# Altium footprint library Dallas Semiconductor Footprints.PcbLib: 181 footprints (part 6 of 12)
Each footprint in its own frame and in the unit in brackets; x right, y up, seen from the top. Pads: shape width x height; smd on the part's side, far side on the other; paste and mask are expansions set on the pad; w line width, h text height; cw(c..) or ccw(c..) is an arc to the next point about the centre after c.
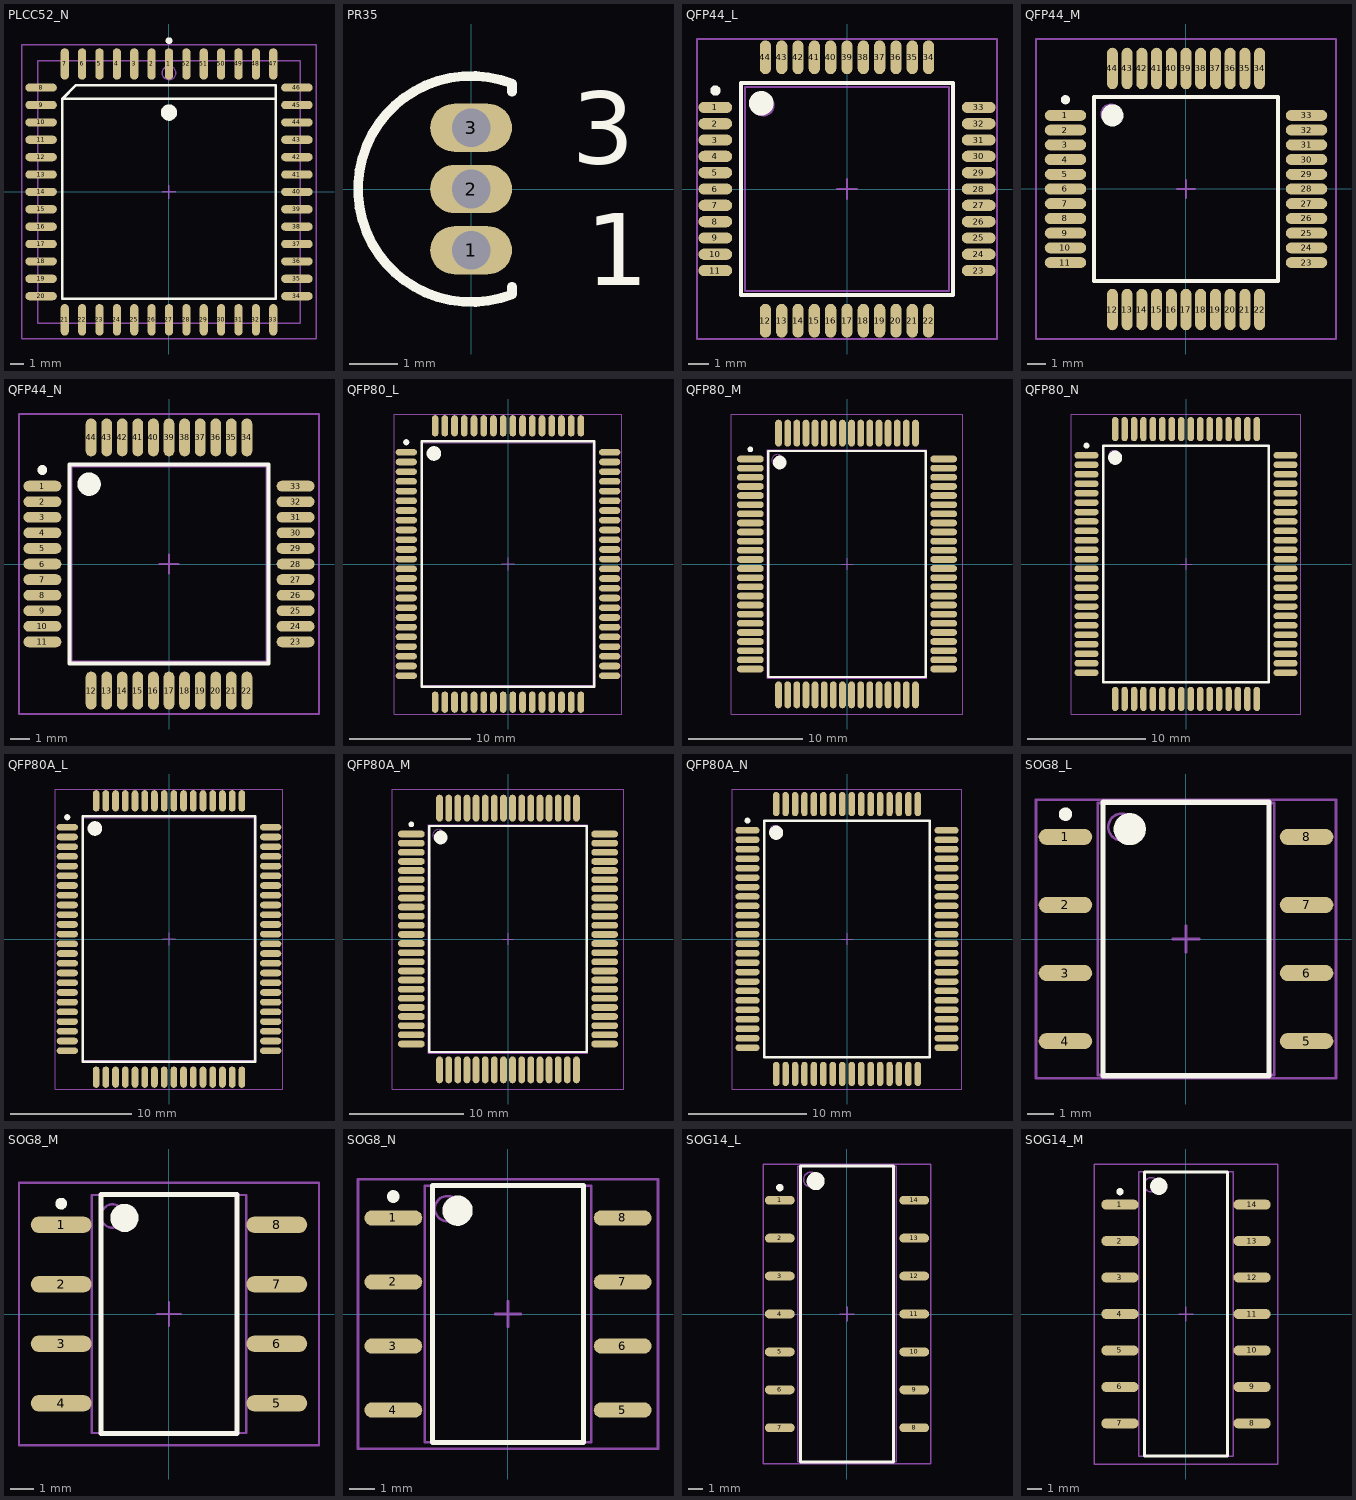
[diagram p5: the footprints below, top view; thin cyan lines are the x and y axes]

## PLCC52_N [mm] "52-Pin Leaded Chip Carrier 1.27 mm Pitch, IPC Medium Density"
height 4.58
pads (52):
  oval 0.6x2.3 smd: 1(0,9.35) 2(-1.27,9.35) 3(-2.54,9.35) 4(-3.81,9.35) 5(-5.08,9.35) 6(-6.35,9.35) 7(-7.62,9.35) 21(-7.62,-9.35) 22(-6.35,-9.35) 23(-5.08,-9.35) 24(-3.81,-9.35) 25(-2.54,-9.35) 26(-1.27,-9.35) 27(0,-9.35) 28(1.27,-9.35) 29(2.54,-9.35) 30(3.81,-9.35) 31(5.08,-9.35) 32(6.35,-9.35) 33(7.62,-9.35) 47(7.62,9.35) 48(6.35,9.35) 49(5.08,9.35) 50(3.81,9.35) 51(2.54,9.35) 52(1.27,9.35)
  oval 2.3x0.6 smd: 8(-9.35,7.62) 9(-9.35,6.35) 10(-9.35,5.08) 11(-9.35,3.81) 12(-9.35,2.54) 13(-9.35,1.27) 14(-9.35,0) 15(-9.35,-1.27) 16(-9.35,-2.54) 17(-9.35,-3.81) 18(-9.35,-5.08) 19(-9.35,-6.35) 20(-9.35,-7.62) 34(9.35,-7.62) 35(9.35,-6.35) 36(9.35,-5.08) 37(9.35,-3.81) 38(9.35,-2.54) 39(9.35,-1.27) 40(9.35,0) 41(9.35,1.27) 42(9.35,2.54) 43(9.35,3.81) 44(9.35,5.08) 45(9.35,6.35) 46(9.35,7.62)
Top Overlay:
  circle w0.25: c0,11.05 r0.125
  circle w0.6: c0,5.8 r0.3
  lines w0.2: 7.8,6.8 -7.8,6.8 ; -7.8,6.8 -6.8,7.8 7.8,7.8 7.8,-7.8 -7.8,-7.8 -7.8,6.8
Mechanical 13:
  circle w0.1: c0,8.7 r0.5
  lines w0.1: -9.6,-9.6 -9.6,9.6 9.6,9.6 9.6,-9.6 -9.6,-9.6
Mechanical 15:
  lines w0.1: -0.5,0 0.5,0 ; 0,-0.5 0,0.5 ; -10.75,-10.75 -10.75,10.75 10.75,10.75 10.75,-10.75 -10.75,-10.75
3D body: height 4.58, standoff 0, extent -9.6,-9.6 9.6,9.6

## PR35 [mm] "TO, Flat Index; 3 In-Line, Axial Leads; Body Dia. 4.6mm; Leads 0.56 x 0.51 mm (max)"
height 8.97
pads (3):
  oval 1.7x1 hole 0.8: 1(0,-1.27) 2(0,0) 3(0,1.27)
Top Overlay:
  lines w0.2: 0.85,-2.18 0.85,-2.03 ; 0.85,2.02 0.85,2.18 ; 0.853,-2.187 cw(c0,0) 0.853,2.187
  text "3" at 2.09,0.52 h1.5
  text "1" at 2.38,-2 h1.5

## QFP44_L [mm] "44-Pin Quad Flat Pack 0.8 mm Pitch, IPC High Density"
height 2.45
pads (44):
  oval 1.65x0.55 smd: 1(-6.45,4) 2(-6.45,3.2) 3(-6.45,2.4) 4(-6.45,1.6) 5(-6.45,0.8) 6(-6.45,0) 7(-6.45,-0.8) 8(-6.45,-1.6) 9(-6.45,-2.4) 10(-6.45,-3.2) 11(-6.45,-4) 23(6.45,-4) 24(6.45,-3.2) 25(6.45,-2.4) 26(6.45,-1.6) 27(6.45,-0.8) 28(6.45,0) 29(6.45,0.8) 30(6.45,1.6) 31(6.45,2.4) 32(6.45,3.2) 33(6.45,4)
  oval 0.55x1.65 smd: 12(-4,-6.45) 13(-3.2,-6.45) 14(-2.4,-6.45) 15(-1.6,-6.45) 16(-0.8,-6.45) 17(0,-6.45) 18(0.8,-6.45) 19(1.6,-6.45) 20(2.4,-6.45) 21(3.2,-6.45) 22(4,-6.45) 34(4,6.45) 35(3.2,6.45) 36(2.4,6.45) 37(1.6,6.45) 38(0.8,6.45) 39(0,6.45) 40(-0.8,6.45) 41(-1.6,6.45) 42(-2.4,6.45) 43(-3.2,6.45) 44(-4,6.45)
Top Overlay:
  circle w0.6: c-4.2,4.2 r0.3
  circle w0.25: c-6.45,4.825 r0.125
  lines w0.2: -5.2,-5.2 5.2,-5.2 5.2,5.2 -5.2,5.2 -5.2,-5.2
Mechanical 13:
  circle w0.1: c-4.1,4.1 r0.5
  lines w0.1: -5,-5 5,-5 5,5 -5,5 -5,-5
Mechanical 15:
  lines w0.1: -0.5,0 0.5,0 ; 0,-0.5 0,0.5 ; -7.35,-7.35 7.35,-7.35 7.35,7.35 -7.35,7.35 -7.35,-7.35
3D body: height 2.45, standoff 0, extent -5,-5 5,5

## QFP44_M [mm] "44-Pin Quad Flat Pack 0.8 mm Pitch, IPC Low Density"
height 2.45
pads (44):
  oval 2.25x0.6 smd: 1(-6.55,4) 2(-6.55,3.2) 3(-6.55,2.4) 4(-6.55,1.6) 5(-6.55,0.8) 6(-6.55,0) 7(-6.55,-0.8) 8(-6.55,-1.6) 9(-6.55,-2.4) 10(-6.55,-3.2) 11(-6.55,-4) 23(6.55,-4) 24(6.55,-3.2) 25(6.55,-2.4) 26(6.55,-1.6) 27(6.55,-0.8) 28(6.55,0) 29(6.55,0.8) 30(6.55,1.6) 31(6.55,2.4) 32(6.55,3.2) 33(6.55,4)
  oval 0.6x2.25 smd: 12(-4,-6.55) 13(-3.2,-6.55) 14(-2.4,-6.55) 15(-1.6,-6.55) 16(-0.8,-6.55) 17(0,-6.55) 18(0.8,-6.55) 19(1.6,-6.55) 20(2.4,-6.55) 21(3.2,-6.55) 22(4,-6.55) 34(4,6.55) 35(3.2,6.55) 36(2.4,6.55) 37(1.6,6.55) 38(0.8,6.55) 39(0,6.55) 40(-0.8,6.55) 41(-1.6,6.55) 42(-2.4,6.55) 43(-3.2,6.55) 44(-4,6.55)
Top Overlay:
  circle w0.6: c-4,4 r0.3
  circle w0.25: c-6.55,4.85 r0.125
  lines w0.2: -5,-5 5,-5 5,5 -5,5 -5,-5
Mechanical 13:
  circle w0.1: c-4.1,4.1 r0.5
  lines w0.1: -5,-5 5,-5 5,5 -5,5 -5,-5
Mechanical 15:
  lines w0.1: -0.5,0 0.5,0 ; 0,-0.5 0,0.5 ; -8.15,-8.15 8.15,-8.15 8.15,8.15 -8.15,8.15 -8.15,-8.15
3D body: height 2.45, standoff 0, extent -5,-5 5,5

## QFP44_N [mm] "44-Pin Quad Flat Pack 0.8 mm Pitch, IPC Medium Density"
height 2.45
pads (44):
  oval 1.95x0.55 smd: 1(-6.5,4) 2(-6.5,3.2) 3(-6.5,2.4) 4(-6.5,1.6) 5(-6.5,0.8) 6(-6.5,0) 7(-6.5,-0.8) 8(-6.5,-1.6) 9(-6.5,-2.4) 10(-6.5,-3.2) 11(-6.5,-4) 23(6.5,-4) 24(6.5,-3.2) 25(6.5,-2.4) 26(6.5,-1.6) 27(6.5,-0.8) 28(6.5,0) 29(6.5,0.8) 30(6.5,1.6) 31(6.5,2.4) 32(6.5,3.2) 33(6.5,4)
  oval 0.55x1.95 smd: 12(-4,-6.5) 13(-3.2,-6.5) 14(-2.4,-6.5) 15(-1.6,-6.5) 16(-0.8,-6.5) 17(0,-6.5) 18(0.8,-6.5) 19(1.6,-6.5) 20(2.4,-6.5) 21(3.2,-6.5) 22(4,-6.5) 34(4,6.5) 35(3.2,6.5) 36(2.4,6.5) 37(1.6,6.5) 38(0.8,6.5) 39(0,6.5) 40(-0.8,6.5) 41(-1.6,6.5) 42(-2.4,6.5) 43(-3.2,6.5) 44(-4,6.5)
Top Overlay:
  circle w0.6: c-4.1,4.1 r0.3
  circle w0.25: c-6.5,4.825 r0.125
  lines w0.2: -5.1,-5.1 5.1,-5.1 5.1,5.1 -5.1,5.1 -5.1,-5.1
Mechanical 13:
  circle w0.1: c-4.1,4.1 r0.5
  lines w0.1: -5,-5 5,-5 5,5 -5,5 -5,-5
Mechanical 15:
  lines w0.1: -0.5,0 0.5,0 ; 0,-0.5 0,0.5 ; -7.7,-7.7 7.7,-7.7 7.7,7.7 -7.7,7.7 -7.7,-7.7
3D body: height 2.45, standoff 0, extent -5,-5 5,5

## QFP80_L [mm] "80-Pin Quad Flat Pack Rectangular 0.8 mm Pitch, IPC High Density"
height 3.25
pads (80):
  oval 1.75x0.55 smd: 1(-8.375,9.2) 2(-8.375,8.4) 3(-8.375,7.6) 4(-8.375,6.8) 5(-8.375,6) 6(-8.375,5.2) 7(-8.375,4.4) 8(-8.375,3.6) 9(-8.375,2.8) 10(-8.375,2) 11(-8.375,1.2) 12(-8.375,0.4) 13(-8.375,-0.4) 14(-8.375,-1.2) 15(-8.375,-2) 16(-8.375,-2.8) 17(-8.375,-3.6) 18(-8.375,-4.4) 19(-8.375,-5.2) 20(-8.375,-6) 21(-8.375,-6.8) 22(-8.375,-7.6) 23(-8.375,-8.4) 24(-8.375,-9.2) 41(8.375,-9.2) 42(8.375,-8.4) 43(8.375,-7.6) 44(8.375,-6.8) 45(8.375,-6) 46(8.375,-5.2) 47(8.375,-4.4) 48(8.375,-3.6) 49(8.375,-2.8) 50(8.375,-2) 51(8.375,-1.2) 52(8.375,-0.4) 53(8.375,0.4) 54(8.375,1.2) 55(8.375,2) 56(8.375,2.8) 57(8.375,3.6) 58(8.375,4.4) 59(8.375,5.2) 60(8.375,6) 61(8.375,6.8) 62(8.375,7.6) 63(8.375,8.4) 64(8.375,9.2)
  oval 0.55x1.75 smd: 25(-6,-11.375) 26(-5.2,-11.375) 27(-4.4,-11.375) 28(-3.6,-11.375) 29(-2.8,-11.375) 30(-2,-11.375) 31(-1.2,-11.375) 32(-0.4,-11.375) 33(0.4,-11.375) 34(1.2,-11.375) 35(2,-11.375) 36(2.8,-11.375) 37(3.6,-11.375) 38(4.4,-11.375) 39(5.2,-11.375) 40(6,-11.375) 65(6,11.375) 66(5.2,11.375) 67(4.4,11.375) 68(3.6,11.375) 69(2.8,11.375) 70(2,11.375) 71(1.2,11.375) 72(0.4,11.375) 73(-0.4,11.375) 74(-1.2,11.375) 75(-2,11.375) 76(-2.8,11.375) 77(-3.6,11.375) 78(-4.4,11.375) 79(-5.2,11.375) 80(-6,11.375)
Top Overlay:
  circle w0.6: c-6.1,9.1 r0.3
  circle w0.25: c-8.375,10.025 r0.125
  lines w0.2: -7.1,-10.1 7.1,-10.1 7.1,10.1 -7.1,10.1 -7.1,-10.1
Mechanical 13:
  circle w0.1: c-6.1,9.1 r0.5
  lines w0.1: -7,-10 7,-10 7,10 -7,10 -7,-10
Mechanical 15:
  lines w0.1: -0.5,0 0.5,0 ; 0,-0.5 0,0.5 ; -9.35,-12.35 9.35,-12.35 9.35,12.35 -9.35,12.35 -9.35,-12.35
3D body: height 3.25, standoff 0, extent -7,-10 7,10

## QFP80_M [mm] "80-Pin Quad Flat Pack Rectangular 0.8 mm Pitch, IPC Low Density"
height 3.25
pads (80):
  oval 2.35x0.6 smd: 1(-8.475,9.2) 2(-8.475,8.4) 3(-8.475,7.6) 4(-8.475,6.8) 5(-8.475,6) 6(-8.475,5.2) 7(-8.475,4.4) 8(-8.475,3.6) 9(-8.475,2.8) 10(-8.475,2) 11(-8.475,1.2) 12(-8.475,0.4) 13(-8.475,-0.4) 14(-8.475,-1.2) 15(-8.475,-2) 16(-8.475,-2.8) 17(-8.475,-3.6) 18(-8.475,-4.4) 19(-8.475,-5.2) 20(-8.475,-6) 21(-8.475,-6.8) 22(-8.475,-7.6) 23(-8.475,-8.4) 24(-8.475,-9.2) 41(8.475,-9.2) 42(8.475,-8.4) 43(8.475,-7.6) 44(8.475,-6.8) 45(8.475,-6) 46(8.475,-5.2) 47(8.475,-4.4) 48(8.475,-3.6) 49(8.475,-2.8) 50(8.475,-2) 51(8.475,-1.2) 52(8.475,-0.4) 53(8.475,0.4) 54(8.475,1.2) 55(8.475,2) 56(8.475,2.8) 57(8.475,3.6) 58(8.475,4.4) 59(8.475,5.2) 60(8.475,6) 61(8.475,6.8) 62(8.475,7.6) 63(8.475,8.4) 64(8.475,9.2)
  oval 0.6x2.35 smd: 25(-6,-11.475) 26(-5.2,-11.475) 27(-4.4,-11.475) 28(-3.6,-11.475) 29(-2.8,-11.475) 30(-2,-11.475) 31(-1.2,-11.475) 32(-0.4,-11.475) 33(0.4,-11.475) 34(1.2,-11.475) 35(2,-11.475) 36(2.8,-11.475) 37(3.6,-11.475) 38(4.4,-11.475) 39(5.2,-11.475) 40(6,-11.475) 65(6,11.475) 66(5.2,11.475) 67(4.4,11.475) 68(3.6,11.475) 69(2.8,11.475) 70(2,11.475) 71(1.2,11.475) 72(0.4,11.475) 73(-0.4,11.475) 74(-1.2,11.475) 75(-2,11.475) 76(-2.8,11.475) 77(-3.6,11.475) 78(-4.4,11.475) 79(-5.2,11.475) 80(-6,11.475)
Top Overlay:
  circle w0.25: c-8.475,10.05 r0.125
  circle w0.6: c-5.9,8.9 r0.3
  lines w0.2: -6.9,-9.9 -6.9,9.9 6.9,9.9 6.9,-9.9 -6.9,-9.9
Mechanical 13:
  circle w0.1: c-6.1,9.1 r0.5
  lines w0.1: -7,-10 -7,10 7,10 7,-10 -7,-10
Mechanical 15:
  lines w0.1: -0.5,0 0.5,0 ; 0,-0.5 0,0.5 ; -10.15,-13.15 -10.15,13.15 10.15,13.15 10.15,-13.15 -10.15,-13.15
3D body: height 3.25, standoff 0, extent -7,-10 7,10

## QFP80_N [mm] "80-Pin Quad Flat Pack Rectangular 0.8 mm Pitch, IPC Medium Density"
height 3.25
pads (80):
  oval 2.05x0.55 smd: 1(-8.425,9.2) 2(-8.425,8.4) 3(-8.425,7.6) 4(-8.425,6.8) 5(-8.425,6) 6(-8.425,5.2) 7(-8.425,4.4) 8(-8.425,3.6) 9(-8.425,2.8) 10(-8.425,2) 11(-8.425,1.2) 12(-8.425,0.4) 13(-8.425,-0.4) 14(-8.425,-1.2) 15(-8.425,-2) 16(-8.425,-2.8) 17(-8.425,-3.6) 18(-8.425,-4.4) 19(-8.425,-5.2) 20(-8.425,-6) 21(-8.425,-6.8) 22(-8.425,-7.6) 23(-8.425,-8.4) 24(-8.425,-9.2) 41(8.425,-9.2) 42(8.425,-8.4) 43(8.425,-7.6) 44(8.425,-6.8) 45(8.425,-6) 46(8.425,-5.2) 47(8.425,-4.4) 48(8.425,-3.6) 49(8.425,-2.8) 50(8.425,-2) 51(8.425,-1.2) 52(8.425,-0.4) 53(8.425,0.4) 54(8.425,1.2) 55(8.425,2) 56(8.425,2.8) 57(8.425,3.6) 58(8.425,4.4) 59(8.425,5.2) 60(8.425,6) 61(8.425,6.8) 62(8.425,7.6) 63(8.425,8.4) 64(8.425,9.2)
  oval 0.55x2.05 smd: 25(-6,-11.425) 26(-5.2,-11.425) 27(-4.4,-11.425) 28(-3.6,-11.425) 29(-2.8,-11.425) 30(-2,-11.425) 31(-1.2,-11.425) 32(-0.4,-11.425) 33(0.4,-11.425) 34(1.2,-11.425) 35(2,-11.425) 36(2.8,-11.425) 37(3.6,-11.425) 38(4.4,-11.425) 39(5.2,-11.425) 40(6,-11.425) 65(6,11.425) 66(5.2,11.425) 67(4.4,11.425) 68(3.6,11.425) 69(2.8,11.425) 70(2,11.425) 71(1.2,11.425) 72(0.4,11.425) 73(-0.4,11.425) 74(-1.2,11.425) 75(-2,11.425) 76(-2.8,11.425) 77(-3.6,11.425) 78(-4.4,11.425) 79(-5.2,11.425) 80(-6,11.425)
Top Overlay:
  circle w0.6: c-6,9 r0.3
  circle w0.25: c-8.425,10.025 r0.125
  lines w0.2: -7,-10 7,-10 7,10 -7,10 -7,-10
Mechanical 13:
  circle w0.1: c-6.1,9.1 r0.5
  lines w0.1: -7,-10 7,-10 7,10 -7,10 -7,-10
Mechanical 15:
  lines w0.1: -0.5,0 0.5,0 ; 0,-0.5 0,0.5 ; -9.7,-12.7 9.7,-12.7 9.7,12.7 -9.7,12.7 -9.7,-12.7
3D body: height 3.25, standoff 0, extent -7,-10 7,10

## QFP80A_L [mm] "80-Pin Quad Flat Pack Rectangular 0.8 mm Pitch, IPC High Density"
height 3.15
pads (80):
  oval 1.75x0.55 smd: 1(-8.375,9.2) 2(-8.375,8.4) 3(-8.375,7.6) 4(-8.375,6.8) 5(-8.375,6) 6(-8.375,5.2) 7(-8.375,4.4) 8(-8.375,3.6) 9(-8.375,2.8) 10(-8.375,2) 11(-8.375,1.2) 12(-8.375,0.4) 13(-8.375,-0.4) 14(-8.375,-1.2) 15(-8.375,-2) 16(-8.375,-2.8) 17(-8.375,-3.6) 18(-8.375,-4.4) 19(-8.375,-5.2) 20(-8.375,-6) 21(-8.375,-6.8) 22(-8.375,-7.6) 23(-8.375,-8.4) 24(-8.375,-9.2) 41(8.375,-9.2) 42(8.375,-8.4) 43(8.375,-7.6) 44(8.375,-6.8) 45(8.375,-6) 46(8.375,-5.2) 47(8.375,-4.4) 48(8.375,-3.6) 49(8.375,-2.8) 50(8.375,-2) 51(8.375,-1.2) 52(8.375,-0.4) 53(8.375,0.4) 54(8.375,1.2) 55(8.375,2) 56(8.375,2.8) 57(8.375,3.6) 58(8.375,4.4) 59(8.375,5.2) 60(8.375,6) 61(8.375,6.8) 62(8.375,7.6) 63(8.375,8.4) 64(8.375,9.2)
  oval 0.55x1.75 smd: 25(-6,-11.375) 26(-5.2,-11.375) 27(-4.4,-11.375) 28(-3.6,-11.375) 29(-2.8,-11.375) 30(-2,-11.375) 31(-1.2,-11.375) 32(-0.4,-11.375) 33(0.4,-11.375) 34(1.2,-11.375) 35(2,-11.375) 36(2.8,-11.375) 37(3.6,-11.375) 38(4.4,-11.375) 39(5.2,-11.375) 40(6,-11.375) 65(6,11.375) 66(5.2,11.375) 67(4.4,11.375) 68(3.6,11.375) 69(2.8,11.375) 70(2,11.375) 71(1.2,11.375) 72(0.4,11.375) 73(-0.4,11.375) 74(-1.2,11.375) 75(-2,11.375) 76(-2.8,11.375) 77(-3.6,11.375) 78(-4.4,11.375) 79(-5.2,11.375) 80(-6,11.375)
Top Overlay:
  circle w0.6: c-6.1,9.1 r0.3
  circle w0.25: c-8.375,10.025 r0.125
  lines w0.2: -7.1,-10.1 7.1,-10.1 7.1,10.1 -7.1,10.1 -7.1,-10.1
Mechanical 13:
  circle w0.1: c-6.1,9.1 r0.5
  lines w0.1: -7,-10 7,-10 7,10 -7,10 -7,-10
Mechanical 15:
  lines w0.1: -0.5,0 0.5,0 ; 0,-0.5 0,0.5 ; -9.35,-12.35 9.35,-12.35 9.35,12.35 -9.35,12.35 -9.35,-12.35
3D body: height 3.15, standoff 0, extent -7,-10 7,10

## QFP80A_M [mm] "80-Pin Quad Flat Pack Rectangular 0.8 mm Pitch, IPC Low Density"
height 3.15
pads (80):
  oval 2.35x0.6 smd: 1(-8.475,9.2) 2(-8.475,8.4) 3(-8.475,7.6) 4(-8.475,6.8) 5(-8.475,6) 6(-8.475,5.2) 7(-8.475,4.4) 8(-8.475,3.6) 9(-8.475,2.8) 10(-8.475,2) 11(-8.475,1.2) 12(-8.475,0.4) 13(-8.475,-0.4) 14(-8.475,-1.2) 15(-8.475,-2) 16(-8.475,-2.8) 17(-8.475,-3.6) 18(-8.475,-4.4) 19(-8.475,-5.2) 20(-8.475,-6) 21(-8.475,-6.8) 22(-8.475,-7.6) 23(-8.475,-8.4) 24(-8.475,-9.2) 41(8.475,-9.2) 42(8.475,-8.4) 43(8.475,-7.6) 44(8.475,-6.8) 45(8.475,-6) 46(8.475,-5.2) 47(8.475,-4.4) 48(8.475,-3.6) 49(8.475,-2.8) 50(8.475,-2) 51(8.475,-1.2) 52(8.475,-0.4) 53(8.475,0.4) 54(8.475,1.2) 55(8.475,2) 56(8.475,2.8) 57(8.475,3.6) 58(8.475,4.4) 59(8.475,5.2) 60(8.475,6) 61(8.475,6.8) 62(8.475,7.6) 63(8.475,8.4) 64(8.475,9.2)
  oval 0.6x2.35 smd: 25(-6,-11.475) 26(-5.2,-11.475) 27(-4.4,-11.475) 28(-3.6,-11.475) 29(-2.8,-11.475) 30(-2,-11.475) 31(-1.2,-11.475) 32(-0.4,-11.475) 33(0.4,-11.475) 34(1.2,-11.475) 35(2,-11.475) 36(2.8,-11.475) 37(3.6,-11.475) 38(4.4,-11.475) 39(5.2,-11.475) 40(6,-11.475) 65(6,11.475) 66(5.2,11.475) 67(4.4,11.475) 68(3.6,11.475) 69(2.8,11.475) 70(2,11.475) 71(1.2,11.475) 72(0.4,11.475) 73(-0.4,11.475) 74(-1.2,11.475) 75(-2,11.475) 76(-2.8,11.475) 77(-3.6,11.475) 78(-4.4,11.475) 79(-5.2,11.475) 80(-6,11.475)
Top Overlay:
  circle w0.25: c-8.475,10.05 r0.125
  circle w0.6: c-5.9,8.9 r0.3
  lines w0.2: -6.9,-9.9 -6.9,9.9 6.9,9.9 6.9,-9.9 -6.9,-9.9
Mechanical 13:
  circle w0.1: c-6.1,9.1 r0.5
  lines w0.1: -7,-10 -7,10 7,10 7,-10 -7,-10
Mechanical 15:
  lines w0.1: -0.5,0 0.5,0 ; 0,-0.5 0,0.5 ; -10.15,-13.15 -10.15,13.15 10.15,13.15 10.15,-13.15 -10.15,-13.15
3D body: height 3.15, standoff 0, extent -7,-10 7,10

## QFP80A_N [mm] "80-Pin Quad Flat Pack Rectangular 0.8 mm Pitch, IPC Medium Density"
height 3.15
pads (80):
  oval 2.05x0.55 smd: 1(-8.425,9.2) 2(-8.425,8.4) 3(-8.425,7.6) 4(-8.425,6.8) 5(-8.425,6) 6(-8.425,5.2) 7(-8.425,4.4) 8(-8.425,3.6) 9(-8.425,2.8) 10(-8.425,2) 11(-8.425,1.2) 12(-8.425,0.4) 13(-8.425,-0.4) 14(-8.425,-1.2) 15(-8.425,-2) 16(-8.425,-2.8) 17(-8.425,-3.6) 18(-8.425,-4.4) 19(-8.425,-5.2) 20(-8.425,-6) 21(-8.425,-6.8) 22(-8.425,-7.6) 23(-8.425,-8.4) 24(-8.425,-9.2) 41(8.425,-9.2) 42(8.425,-8.4) 43(8.425,-7.6) 44(8.425,-6.8) 45(8.425,-6) 46(8.425,-5.2) 47(8.425,-4.4) 48(8.425,-3.6) 49(8.425,-2.8) 50(8.425,-2) 51(8.425,-1.2) 52(8.425,-0.4) 53(8.425,0.4) 54(8.425,1.2) 55(8.425,2) 56(8.425,2.8) 57(8.425,3.6) 58(8.425,4.4) 59(8.425,5.2) 60(8.425,6) 61(8.425,6.8) 62(8.425,7.6) 63(8.425,8.4) 64(8.425,9.2)
  oval 0.55x2.05 smd: 25(-6,-11.425) 26(-5.2,-11.425) 27(-4.4,-11.425) 28(-3.6,-11.425) 29(-2.8,-11.425) 30(-2,-11.425) 31(-1.2,-11.425) 32(-0.4,-11.425) 33(0.4,-11.425) 34(1.2,-11.425) 35(2,-11.425) 36(2.8,-11.425) 37(3.6,-11.425) 38(4.4,-11.425) 39(5.2,-11.425) 40(6,-11.425) 65(6,11.425) 66(5.2,11.425) 67(4.4,11.425) 68(3.6,11.425) 69(2.8,11.425) 70(2,11.425) 71(1.2,11.425) 72(0.4,11.425) 73(-0.4,11.425) 74(-1.2,11.425) 75(-2,11.425) 76(-2.8,11.425) 77(-3.6,11.425) 78(-4.4,11.425) 79(-5.2,11.425) 80(-6,11.425)
Top Overlay:
  circle w0.6: c-6,9 r0.3
  circle w0.25: c-8.425,10.025 r0.125
  lines w0.2: -7,-10 7,-10 7,10 -7,10 -7,-10
Mechanical 13:
  circle w0.1: c-6.1,9.1 r0.5
  lines w0.1: -7,-10 7,-10 7,10 -7,10 -7,-10
Mechanical 15:
  lines w0.1: -0.5,0 0.5,0 ; 0,-0.5 0,0.5 ; -9.7,-12.7 9.7,-12.7 9.7,12.7 -9.7,12.7 -9.7,-12.7
3D body: height 3.15, standoff 0, extent -7,-10 7,10

## SOG8_L [mm] "8-Pin Small Outline Package 2.54 mm Pitch, IPC High Density"
height 4.57
pads (8):
  oval 2x0.6 smd: 1(-4.5,3.81) 2(-4.5,1.27) 3(-4.5,-1.27) 4(-4.5,-3.81) 5(4.5,-3.81) 6(4.5,-1.27) 7(4.5,1.27) 8(4.5,3.81)
Top Overlay:
  circle w0.25: c-4.5,4.66 r0.125
  circle w0.6: c-2.1,4.1 r0.3
  lines w0.2: -3.1,-5.1 -3.1,5.1 3.1,5.1 3.1,-5.1 -3.1,-5.1
Mechanical 13:
  circle w0.1: c-2.4,4.18 r0.5
  lines w0.1: -3.3,-5.08 -3.3,5.08 3.3,5.08 3.3,-5.08 -3.3,-5.08
Mechanical 15:
  lines w0.1: -0.5,0 0.5,0 ; 0,-0.5 0,0.5 ; -5.6,-5.2 -5.6,5.2 5.6,5.2 5.6,-5.2 -5.6,-5.2
3D body: height 4.57, standoff 0, extent -3.3,-5.08 3.3,5.08

## SOG8_M [mm] "8-Pin Small Outline Package 2.54 mm Pitch, IPC Low Density"
height 4.57
pads (8):
  oval 2.6x0.7 smd: 1(-4.6,3.81) 2(-4.6,1.27) 3(-4.6,-1.27) 4(-4.6,-3.81) 5(4.6,-3.81) 6(4.6,-1.27) 7(4.6,1.27) 8(4.6,3.81)
Top Overlay:
  circle w0.6: c-1.9,4.1 r0.3
  circle w0.25: c-4.6,4.71 r0.125
  lines w0.2: -2.9,-5.1 2.9,-5.1 2.9,5.1 -2.9,5.1 -2.9,-5.1
Mechanical 13:
  circle w0.1: c-2.4,4.18 r0.5
  lines w0.1: -3.3,-5.08 3.3,-5.08 3.3,5.08 -3.3,5.08 -3.3,-5.08
Mechanical 15:
  lines w0.1: -0.5,0 0.5,0 ; 0,-0.5 0,0.5 ; -6.4,-5.6 6.4,-5.6 6.4,5.6 -6.4,5.6 -6.4,-5.6
3D body: height 4.57, standoff 0, extent -3.3,-5.08 3.3,5.08

## SOG8_N [mm] "8-Pin Small Outline Package 2.54 mm Pitch, IPC Medium Density"
height 4.57
pads (8):
  oval 2.3x0.6 smd: 1(-4.55,3.81) 2(-4.55,1.27) 3(-4.55,-1.27) 4(-4.55,-3.81) 5(4.55,-3.81) 6(4.55,-1.27) 7(4.55,1.27) 8(4.55,3.81)
Top Overlay:
  circle w0.6: c-2,4.1 r0.3
  circle w0.25: c-4.55,4.66 r0.125
  lines w0.2: -3,-5.1 3,-5.1 3,5.1 -3,5.1 -3,-5.1
Mechanical 13:
  circle w0.1: c-2.4,4.18 r0.5
  lines w0.1: -3.3,-5.08 3.3,-5.08 3.3,5.08 -3.3,5.08 -3.3,-5.08
Mechanical 15:
  lines w0.1: -0.5,0 0.5,0 ; 0,-0.5 0,0.5 ; -5.95,-5.35 5.95,-5.35 5.95,5.35 -5.95,5.35 -5.95,-5.35
3D body: height 4.57, standoff 0, extent -3.3,-5.08 3.3,5.08

## SOG14_L [mm] "14-Pin Small Outline Package 2.54 mm Pitch, IPC High Density"
height 4.57
pads (14):
  oval 2x0.6 smd: 1(-4.5,7.62) 2(-4.5,5.08) 3(-4.5,2.54) 4(-4.5,0) 5(-4.5,-2.54) 6(-4.5,-5.08) 7(-4.5,-7.62) 8(4.5,-7.62) 9(4.5,-5.08) 10(4.5,-2.54) 11(4.5,0) 12(4.5,2.54) 13(4.5,5.08) 14(4.5,7.62)
Top Overlay:
  circle w0.6: c-2.1,8.9 r0.3
  circle w0.25: c-4.5,8.47 r0.125
  lines w0.2: -3.1,-9.9 3.1,-9.9 3.1,9.9 -3.1,9.9 -3.1,-9.9
Mechanical 13:
  circle w0.1: c-2.4,9.005 r0.5
  lines w0.1: -3.3,-9.905 3.3,-9.905 3.3,9.905 -3.3,9.905 -3.3,-9.905
Mechanical 15:
  lines w0.1: -0.5,0 0.5,0 ; 0,-0.5 0,0.5 ; -5.6,-10.05 5.6,-10.05 5.6,10.05 -5.6,10.05 -5.6,-10.05
3D body: height 4.57, standoff 0, extent -3.3,-9.905 3.3,9.905

## SOG14_M [mm] "14-Pin Small Outline Package 2.54 mm Pitch, IPC Low Density"
height 4.57
pads (14):
  oval 2.6x0.7 smd: 1(-4.6,7.62) 2(-4.6,5.08) 3(-4.6,2.54) 4(-4.6,0) 5(-4.6,-2.54) 6(-4.6,-5.08) 7(-4.6,-7.62) 8(4.6,-7.62) 9(4.6,-5.08) 10(4.6,-2.54) 11(4.6,0) 12(4.6,2.54) 13(4.6,5.08) 14(4.6,7.62)
Top Overlay:
  circle w0.25: c-4.6,8.52 r0.125
  circle w0.6: c-1.9,8.9 r0.3
  lines w0.2: -2.9,-9.9 -2.9,9.9 2.9,9.9 2.9,-9.9 -2.9,-9.9
Mechanical 13:
  circle w0.1: c-2.4,9.005 r0.5
  lines w0.1: -3.3,-9.905 -3.3,9.905 3.3,9.905 3.3,-9.905 -3.3,-9.905
Mechanical 15:
  lines w0.1: -0.5,0 0.5,0 ; 0,-0.5 0,0.5 ; -6.4,-10.45 -6.4,10.45 6.4,10.45 6.4,-10.45 -6.4,-10.45
3D body: height 4.57, standoff 0, extent -3.3,-9.905 3.3,9.905